# Altium footprint library SK34A-LTP.PcbLib: 3 footprints
Each footprint in its own frame and in the unit in brackets; x right, y up, seen from the top. Pads: shape width x height; smd on the part's side, far side on the other; paste and mask are expansions set on the pad; w line width, h text height; cw(c..) or ccw(c..) is an arc to the next point about the centre after c.
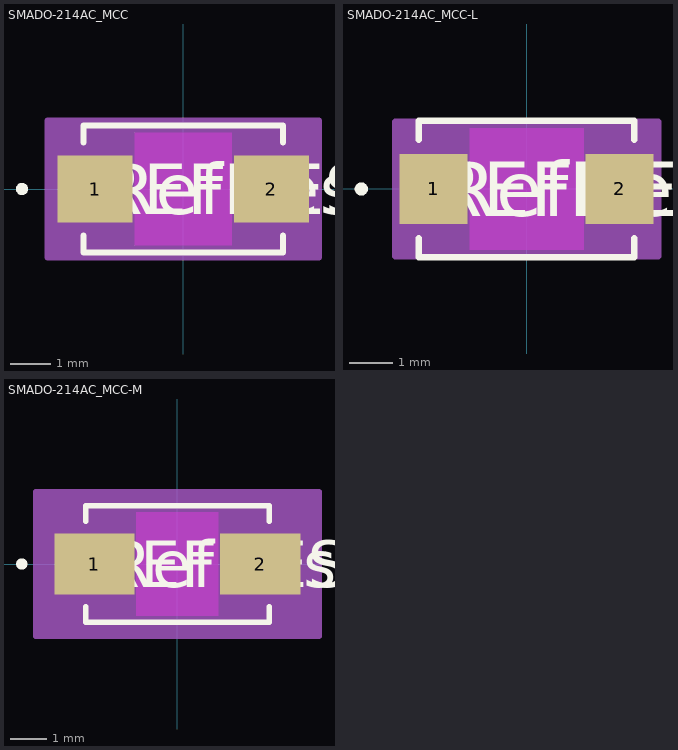
[diagram p0: the footprints below, top view; thin cyan lines are the x and y axes]

## SMADO-214AC_MCC [mil]
pads (2):
  rect 74x66 smd paste+0 mask+0: 1(-87,0) 2(87,0)
Top Layer keep-out:
  region: -48,-55.5 -48,55.5 48,55.5 48,-55.5
Top Overlay:
  circle w6: c-159,0 r3
  lines w6: -98.5,-46.1 -98.5,-62.5 98.5,-62.5 98.5,-46.1 ; -98.5,46.1 -98.5,62.5 98.5,62.5 98.5,46.1
  text "REFDES" at -87.5,-25 h50
  text "RefDes" at -75,-25 h50
Keep-Out Layer:
  region: -48,-55.5 -48,55.5 48,55.5 48,-55.5
Mechanical 13:
  circle w0: c-87,0 r3
  lines w1: -93.5,-28.75 -64.75,-57.5 ; -93.5,28.75 -64.75,57.5 ; -110,-32 -110,32 -93.5,32 -93.5,-32 -110,-32 ; -93.5,-57.5 93.5,-57.5 93.5,57.5 -93.5,57.5 -93.5,-57.5 ; 93.5,-32 93.5,32 110,32 110,-32 93.5,-32
  text "RefDes2" at -87.5,-25 h50
Mechanical 15:
  region: 134,-67.5 -134,-67.5 -134,67.5 134,67.5
  lines w6: -134,-67.5 -134,67.5 134,67.5 134,-67.5 -134,-67.5

## SMADO-214AC_MCC-L [mil]
pads (2):
  rect 62x64 smd paste+0 mask+0: 1(-85,0) 2(85,0)
Top Layer keep-out:
  region: -52,-55.5 -52,55.5 52,55.5 52,-55.5
Top Overlay:
  circle w6: c-151,0 r3
  lines w6: -98.5,-45.1 -98.5,-62.5 98.5,-62.5 98.5,-45.1 ; -98.5,45.1 -98.5,62.5 98.5,62.5 98.5,45.1
  text "REFDES" at -87.5,-25 h50
  text "RefDes" at -75,-25 h50
Keep-Out Layer:
  region: -52,-55.5 -52,55.5 52,55.5 52,-55.5
Mechanical 13:
  circle w0: c-85,0 r3
  lines w1: -93.5,-28.75 -64.75,-57.5 ; -93.5,28.75 -64.75,57.5 ; -110,-32 -110,32 -93.5,32 -93.5,-32 -110,-32 ; -93.5,-57.5 93.5,-57.5 93.5,57.5 -93.5,57.5 -93.5,-57.5 ; 93.5,-32 93.5,32 110,32 110,-32 93.5,-32
  text "RefDes2" at -87.5,-25 h50
Mechanical 15:
  region: 120,-61.5 -120,-61.5 -120,61.5 120,61.5
  lines w6: -120,-61.5 -120,61.5 120,61.5 120,-61.5 -120,-61.5

## SMADO-214AC_MCC-M [mil]
pads (2):
  rect 86x66 smd paste+0 mask+0: 1(-89,0) 2(89,0)
Top Layer keep-out:
  region: -44,-55.5 -44,55.5 44,55.5 44,-55.5
Top Overlay:
  circle w6: c-167,0 r3
  lines w6: -98.5,-46.1 -98.5,-62.5 98.5,-62.5 98.5,-46.1 ; -98.5,46.1 -98.5,62.5 98.5,62.5 98.5,46.1
  text "REFDES" at -87.5,-25 h50
  text "RefDes" at -75,-25 h50
Keep-Out Layer:
  region: -44,-55.5 -44,55.5 44,55.5 44,-55.5
Mechanical 13:
  circle w0: c-89,0 r3
  lines w1: -93.5,-28.75 -64.75,-57.5 ; -93.5,28.75 -64.75,57.5 ; -110,-32 -110,32 -93.5,32 -93.5,-32 -110,-32 ; -93.5,-57.5 93.5,-57.5 93.5,57.5 -93.5,57.5 -93.5,-57.5 ; 93.5,-32 93.5,32 110,32 110,-32 93.5,-32
  text "RefDes2" at -87.5,-25 h50
Mechanical 15:
  region: 152,-77.5 -152,-77.5 -152,77.5 152,77.5
  lines w6: -152,-77.5 -152,77.5 152,77.5 152,-77.5 -152,-77.5